# EAGLE library part MCP3008 (library SpatiumB)
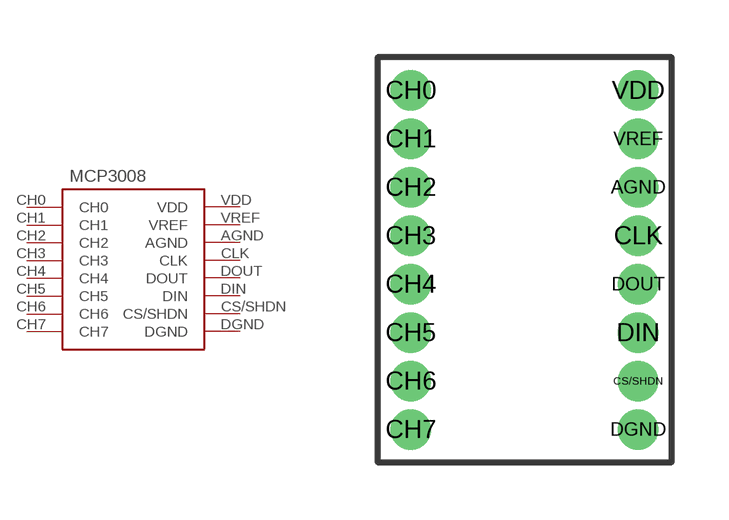
[diagram p4: symbol with the pads of MCP3008; footprint MCP3008]

Designator prefix -

## MCP3008  [MCP3008]
AGND  AGND
CH0  CH0
CH1  CH1
CH2  CH2
CH3  CH3
CH4  CH4
CH5  CH5
CH6  CH6
CH7  CH7
CLK  CLK
CS/SHDN  CS/SHDN
DGND  DGND
DIN  DIN
DOUT  DOUT
VDD  VDD
VREF  VREF

## Footprint MCP3008 (pad centres in mm)
drill 0.55: AGND 2.978,1.85; CH0 -2.986,4.39; CH1 -2.986,3.12; CH2 -2.986,1.85; CH3 -2.986,0.58; CH4 -2.986,-0.69; CH5 -2.986,-1.96; CH6 -2.986,-3.23; CH7 -2.986,-4.5; CLK 2.978,0.58; CS/SHDN 2.978,-3.23; DGND 2.978,-4.5; DIN 2.978,-1.96; DOUT 2.978,-0.69; VDD 2.978,4.39; VREF 2.978,3.12